# Altium schematic symbol library TLV2254AIDR.SchLib: 1 symbol
Pins are listed as number, name and electrical type; pins without a type are passive.

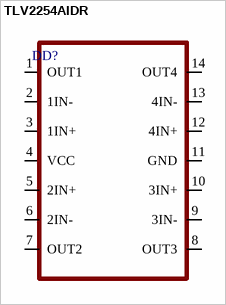
[diagram p0: symbol TLV2254AIDR]

## TLV2254AIDR
designator DD?
pins: 1 OUT1, 2 1IN-, 3 1IN+, 4 VCC, 5 2IN+, 6 2IN-, 7 OUT2, 8 OUT3, 9 3IN-, 10 3IN+, 11 GND, 12 4IN+, 13 4IN-, 14 OUT4